# Altium schematic symbol library rubbish.SchLib: 9 symbols
Pins are listed as number, name and electrical type; pins without a type are passive.

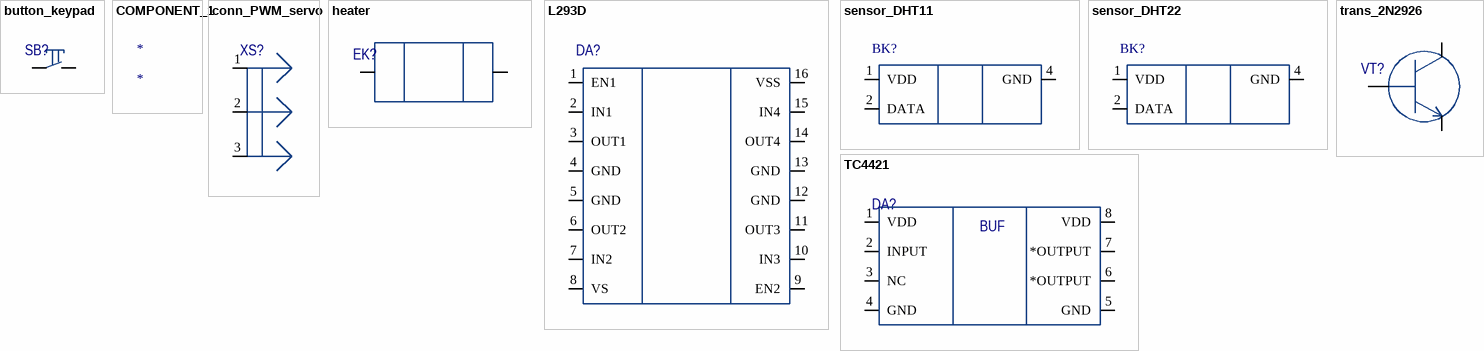
[diagram p0: symbols button_keypad to trans_2N2926]

## button_keypad
designator SB?  (value not drawn)
pins: 1, 2

## COMPONENT_1
designator *

## conn_PWM_servo
designator XS?  (value not drawn)
pins: 1, 2, 3

## heater
designator EK?  (value not drawn)
pins: 1, 2

## L293D
designator DA?  (value not drawn)
pins: 1 EN1, 2 IN1, 3 OUT1, 4 GND, 5 GND, 6 OUT2, 7 IN2, 8 VS, 9 EN2, 10 IN3, 11 OUT3, 12 GND, 13 GND, 14 OUT4, 15 IN4, 16 VSS

## sensor_DHT11
designator BK?  (value not drawn)
pins: 1 VDD, 2 DATA, 3 NC hidden, 4 GND

## sensor_DHT22
designator BK?  (value not drawn)
pins: 1 VDD, 2 DATA, 3 NC hidden, 4 GND

## TC4421
designator DA?  (value not drawn)
pins: 1 VDD, 2 INPUT, 3 NC, 4 GND, 5 GND, 6 *OUTPUT, 7 *OUTPUT, 8 VDD
text: BUF

## trans_2N2926
designator VT?  (value not drawn)
pins: 1 E, 2 B, 3 C